# EAGLE library part CC3100 (library IC_Wireless-RF)
Wi-Fi® Network Processor, IoT for MCU Applications Datasheet <https://www.ti.com/lit/ds/symlink/cc3100.pdf?ts=1606097334955&ref_url=https%253A%252F%252Fwww.ti.com%252Fstore%252Fti%252Fen%252Fp%252Fproduct%252F%253Fp%253DCC3100R11MRGC>
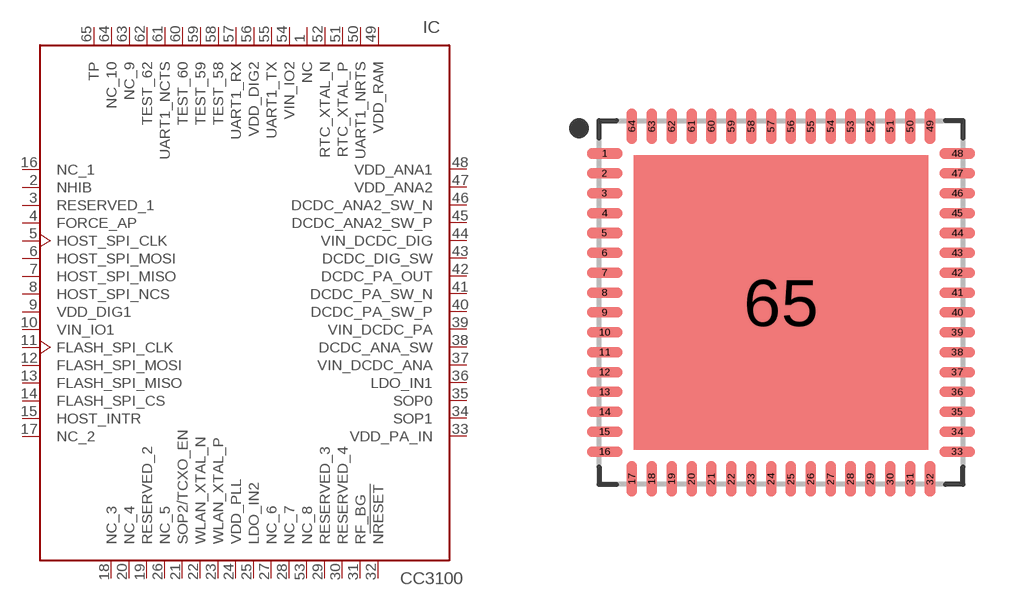
[diagram p12: symbol with the pads of QFN50P900X900X100-65T740N; footprint QFN50P900X900X100-65T740N]

Designator prefix IC

## CC3100 (CATEGORY: INTERFACE IC; DESCRIPTION: RF System on a Chip - SoC CC3100 SimpleLink Wi-Fi; MANUFACTURER: Texas Instruments; MPN: CC3100R11MRGC; OPERATING_TEMPERATURE: - 40 C to + 85 C; ROHS_COMPLIANT: COMPLIANT; SERIES: CC3100; SUB_CATEGORY: Wireless & RF Integrated Circuits; TYPE: RF System on a Chip - SoC; VALUE: CC3100)  [QFN50P900X900X100-65T740N]
1  NC  nc
2  NHIB  in
3  RESERVED_1
4  FORCE_AP  in
5  HOST_SPI_CLK  in
6  HOST_SPI_MOSI  in
7  HOST_SPI_MISO  out
8  HOST_SPI_NCS  in
9  VDD_DIG1  pwr
10  VIN_IO1  pwr
11  FLASH_SPI_CLK  out
12  FLASH_SPI_MOSI  out
13  FLASH_SPI_MISO  in
14  FLASH_SPI_CS  out
15  HOST_INTR  out
16  NC_1  nc
17  NC_2  nc
18  NC_3  nc
19  RESERVED_2
20  NC_4  nc
21  SOP2/TCXO_EN  out
22  WLAN_XTAL_N
23  WLAN_XTAL_P
24  VDD_PLL  pwr
25  LDO_IN2  pwr
26  NC_5  nc
27  NC_6  nc
28  NC_7  nc
29  RESERVED_3
30  RESERVED_4
31  RF_BG
32  N!RESET  in
33  VDD_PA_IN  pwr
34  SOP1
35  SOP0
36  LDO_IN1  pwr
37  VIN_DCDC_ANA  pwr
38  DCDC_ANA_SW  pwr
39  VIN_DCDC_PA  pwr
40  DCDC_PA_SW_P  pwr
41  DCDC_PA_SW_N  pwr
42  DCDC_PA_OUT  pwr
43  DCDC_DIG_SW  pwr
44  VIN_DCDC_DIG  pwr
45  DCDC_ANA2_SW_P  pwr
46  DCDC_ANA2_SW_N  pwr
47  VDD_ANA2  pwr
48  VDD_ANA1  pwr
49  VDD_RAM  pwr
50  UART1_NRTS  out
51  RTC_XTAL_P
52  RTC_XTAL_N
53  NC_8  nc
54  VIN_IO2  pwr
55  UART1_TX  out
56  VDD_DIG2  pwr
57  UART1_RX  in
58  TEST_58
59  TEST_59
60  TEST_60
61  UART1_NCTS  in
62  TEST_62  out
63  NC_9  nc
64  NC_10  nc
65  TP  pwr

## Footprint QFN50P900X900X100-65T740N (pad centres in mm)
64-QFN, 0.50 mm pitch, 9.00 X 9.00 X 1.00 mm body, 7.40 X 7.40 mm thermal pad 64-pin QFN package with 0.50 mm pitch with body size 9.00 X 9.00 X 1.00 mm and thermal pad size 7.40 X 7.40 mm
smd 0.896 x 0.264: 1 -4.437,3.75; 2 -4.437,3.25; 3 -4.437,2.75; 4 -4.437,2.25; 5 -4.437,1.75; 6 -4.437,1.25; 7 -4.437,0.75; 8 -4.437,0.25; 9 -4.437,-0.25; 10 -4.437,-0.75; 11 -4.437,-1.25; 12 -4.437,-1.75; 13 -4.437,-2.25; 14 -4.437,-2.75; 15 -4.437,-3.25; 16 -4.437,-3.75; 33 4.437,-3.75; 34 4.437,-3.25; 35 4.437,-2.75; 36 4.437,-2.25; 37 4.437,-1.75; 38 4.437,-1.25; 39 4.437,-0.75; 40 4.437,-0.25; 41 4.437,0.25; 42 4.437,0.75; 43 4.437,1.25; 44 4.437,1.75; 45 4.437,2.25; 46 4.437,2.75; 47 4.437,3.25; 48 4.437,3.75
smd 0.264 x 0.896: 17 -3.75,-4.437; 18 -3.25,-4.437; 19 -2.75,-4.437; 20 -2.25,-4.437; 21 -1.75,-4.437; 22 -1.25,-4.437; 23 -0.75,-4.437; 24 -0.25,-4.437; 25 0.25,-4.437; 26 0.75,-4.437; 27 1.25,-4.437; 28 1.75,-4.437; 29 2.25,-4.437; 30 2.75,-4.437; 31 3.25,-4.437; 32 3.75,-4.437; 49 3.75,4.437; 50 3.25,4.437; 51 2.75,4.437; 52 2.25,4.437; 53 1.75,4.437; 54 1.25,4.437; 55 0.75,4.437; 56 0.25,4.437; 57 -0.25,4.437; 58 -0.75,4.437; 59 -1.25,4.437; 60 -1.75,4.437; 61 -2.25,4.437; 62 -2.75,4.437; 63 -3.25,4.437; 64 -3.75,4.437
smd 7.4 x 7.4: 65 0,0